# EAGLE library part TPS54KC23RZRR (library TPS54KC23)
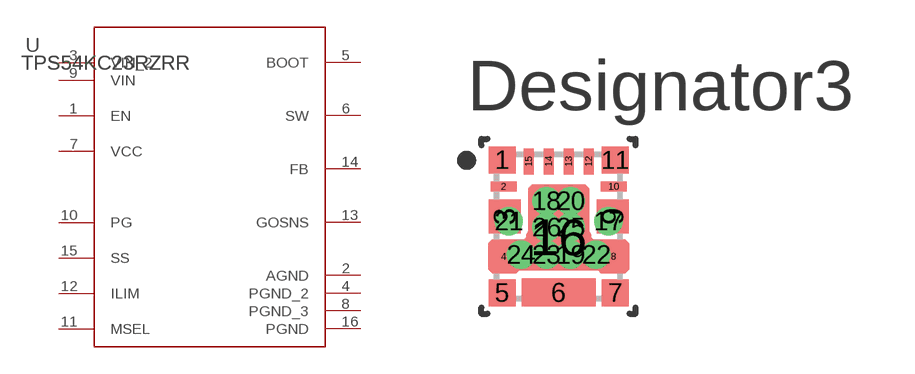
[diagram p0: symbol with the pads of RZR0016A-MFG; footprint RZR0016A-MFG]

Designator prefix U

## TPS54KC23RZRR (COPYRIGHT: Copyright (C) 2024 Ultra Librarian. All rights reserved.; MANUFACTURER_PART_NUMBER: TPS54KC23RZRR; MFR_NAME: Texas Instruments; REFDES: RefDes; TYPE: TYPE)  [RZR0016A-MFG]
1  EN  in
2  AGND  pwr
3  VIN_2  pwr
4  PGND_2  pwr
5  BOOT  pas
6  SW  pas
7  VCC  pwr
8  PGND_3  pwr
9  VIN  pwr
10  PG  oc
11  MSEL  pas
12  ILIM  pas
13  GOSNS  pas
14  FB  pas
15  SS  pas
16  PGND  pwr

## Footprint RZR0016A-MFG (pad centres in mm)
smd 0.675 x 0.675: 1 -1.413,1.663; 5 -1.413,-1.663; 7 1.413,-1.663; 11 1.413,1.663
smd 0.65 x 0.25: 2 -1.375,1; 4 -1.375,-0.75; 8 1.375,-0.75; 10 1.375,1
smd 0.8 x 0.85: 3 -1.35,0.25; 9 1.35,0.25
smd 1.85 x 0.7: 6 0,-1.65
smd 0.25 x 0.65: 12 0.75,1.625; 13 0.25,1.625; 14 -0.25,1.625; 15 -0.75,1.625
smd 1.375 x 1.375: 16 0,-0.268
drill 0.203 pad 0.508: 17 1.245,0.127; 18 -0.305,0.635; 19 0.305,-0.711; 20 0.305,0.635; 21 -1.245,0.127; 22 0.94,-0.711; 23 -0.305,-0.711; 24 -0.94,-0.711; 25 0.305,-0.025; 26 -0.305,-0.025